# Altium schematic symbol library GRM1555C1H120JA01D.SchLib: 1 symbol
Pins are listed as number, name and electrical type; pins without a type are passive.

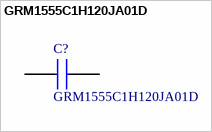
[diagram p0: symbol GRM1555C1H120JA01D]

## GRM1555C1H120JA01D
designator C?
Ceramic  SMT capacitor 12pF 50Vdc Murata 0402 GRM 12pF Ceramic Multilayer Capacitor, 50 V dc C0G Dielectric 5%; Manufacturer_Name: Murata Electronics; Geometry.Height: 0.55mm; Mouser Part Number: 81-GRM1555C1H120JA1D; Manufacturer_Part_Number: GRM1555C1H120JA01D; Datasheet Link: https://componentsearchengine.com/Datasheets/1/GRM1555C1H120JA01D.pdf
footprint CAPC1005X55N
pins: 1, 2